# Altium schematic symbol library Schlib2.SchLib: 7 symbols
Pins are listed as number, name and electrical type; pins without a type are passive.

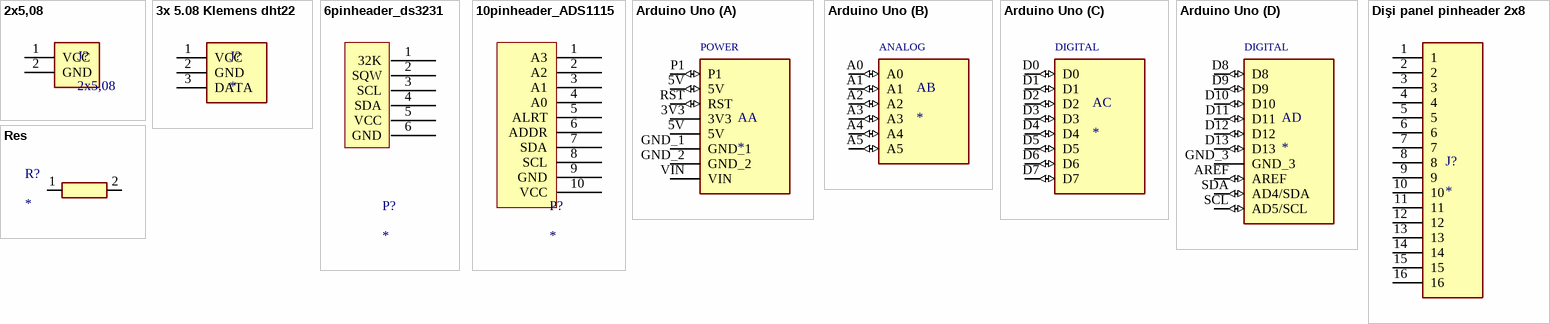
[diagram p0: symbols 2x5,08 to Res]

## 2x5,08
designator J?
TERMINAL BLOCK,HEADER, 5.08 MM, 2WAY; Product Range:-; Gender:Header; MF: TE Connectivity; MP: 282814-2; EU_RoHS_Compliance: Compliant; SnapEDA_Link: https://www.snapeda.com/parts/282814-2/TE%20Connectivity%20AMP%20Connectors/view-part/2381383/?ref=snap; Availability: Unavailable; Price: None; Package: None; TE_purchase_URL: https://www.te.com/usa-en/product-282814-2.html?te_bu=Cor&te_type=disp&te_campaign=seda_glo_cor-seda-global-disp-prtnr-fy19-seda-model-bom-cta_sma-317_1&elqCampaignId=32493; Value: *
footprint 2x5,08
pins: 1 VCC, 2 GND

## 3x 5.08 Klemens dht22
designator J?
2~24 Poles, Screw Type, Horizontal, 5.08 Pitch, 26~14 _AWG_, Terminal Block Connector; MF: CUI Devices; MP: TB006-508-03BE; Value: *; Price: None; Availability: Unavailable; SnapEDA_Link: https://www.snapeda.com/parts/TB006-508-03BE/CUI%20Devices/view-part/3591102/?ref=snap; CUI_purchase_URL: https://www.cuidevices.com/product/interconnect/connectors/terminal-blocks/tb006-508-series?utm_source=snapeda.com&utm_medium=referral&utm_campaign=snapedaBOM; Package: None
footprint 3x 5.08 klemens
pins: 1 VCC, 2 GND, 3 DATA

## 6pinheader_ds3231
designator P?
footprint 6pinheader_ds3231
pins: 1 32K, 2 SQW, 3 SCL, 4 SDA, 5 VCC, 6 GND

## 10pinheader_ADS1115
designator P?
footprint 10xHeaderAD725-1 (Footprint not found)
pins: 1 A3, 2 A2, 3 A1, 4 A0, 5 ALRT, 6 ADDR, 7 SDA, 8 SCL, 9 GND, 10 VCC

## Arduino Uno
designator A
ATmega328P Arduino Uno R3 AVRÂ® ATmega AVR MCU 8-Bit Embedded Evaluation Board; MP: A000066; Value: *; Package: None; MF: Arduino; Price: None; Availability: Unavailable; SnapEDA_Link: https://www.snapeda.com/parts/A000066/Arduino/view-part/557638/?ref=snap
footprint ARDUINO_A000066
part A pins: 3V3 (power), 5V (io), 5V (power), GND_1 (power), GND_2 (power), P1 (io), RST (io), VIN (power)
part B pins: A0 (io), A1 (io), A2 (io), A3 (io), A4 (io), A5 (io)
part C pins: D0 (io), D1 (io), D2 (io), D3 (io), D4 (io), D5 (io), D6 (io), D7 (io)
part D pins: AREF (io), D8 (io), D9 (io), D10 (io), D11 (io), D12 (io), D13 (io), GND_3 (power), SCL AD5/SCL (io), SDA AD4/SDA (io)
part A text: POWER
part B text: ANALOG
part C text: DIGITAL
part D text: DIGITAL

## Dişi panel pinheader 2x8
designator J?
IDC LOW PRO HDR 50P VERT HT BLACK; MP: 1761681-6; Package: None; Price: None; Value: *; Availability: Unavailable
footprint Dişi panel pinheader 2x8
pins: 1, 2, 3, 4, 5, 6, 7, 8, 9, 10, 11, 12, 13, 14, 15, 16

## Res
designator R?
Resistor; Manufacturer_Name: Vishay; Manufacturer_Part_Number: CRCW120610K0DHEAP; Datasheet Link: http://componentsearchengine.com/Datasheets/1/CRCW120610K0DHEAP.pdf; Height: 0.6mm; Mouser Part Number: 71-CRCW120610K0DHEAP; Mouser Price/Stock: https://www.mouser.co.uk/ProductDetail/Vishay-Dale/CRCW120610K0DHEAP?qs=4BdzfeD6%252Bt0oQlLvLz8F%2Fg%3D%3D; Arrow Part Number: CRCW120610K0DHEAP; Arrow Price/Stock: https://www.arrow.com/en/products/crcw120610k0dheap/vishay
footprint 10k resistor
pins: 1, 2